# Altium footprint library TIMicrocontrollers.PcbLib: 3 footprints
Each footprint in its own frame and in the unit in brackets; x right, y up, seen from the top. Pads: shape width x height; smd on the part's side, far side on the other; paste and mask are expansions set on the pad; w line width, h text height; cw(c..) or ccw(c..) is an arc to the next point about the centre after c.
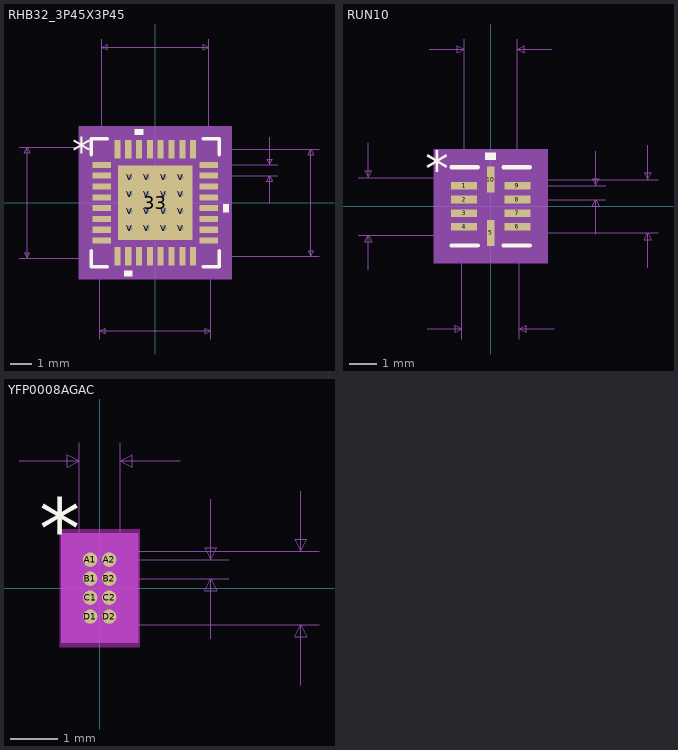
[diagram p0: the footprints below, top view; thin cyan lines are the x and y axes]

## RHB32_3P45X3P45 [mm]
pads (49):
  rect 0.85x0.28 smd paste-0.14 mask+0: 1(-2.475,1.75) 2(-2.475,1.25) 3(-2.475,0.75) 4(-2.475,0.25) 5(-2.475,-0.25) 6(-2.475,-0.75) 7(-2.475,-1.25) 8(-2.475,-1.75) 17(2.475,-1.75) 18(2.475,-1.25) 19(2.475,-0.75) 20(2.475,-0.25) 21(2.475,0.25) 22(2.475,0.75) 23(2.475,1.25) 24(2.475,1.75)
  rect 0.28x0.85 smd paste-0.14 mask+0: 9(-1.75,-2.475) 10(-1.25,-2.475) 11(-0.75,-2.475) 12(-0.25,-2.475) 13(0.25,-2.475) 14(0.75,-2.475) 15(1.25,-2.475) 16(1.75,-2.475) 25(1.75,2.475) 26(1.25,2.475) 27(0.75,2.475) 28(0.25,2.475) 29(-0.25,2.475) 30(-0.75,2.475) 31(-1.25,2.475) 32(-1.75,2.475)
  rect 3.45x3.45 smd paste-1.712 mask-1.714: 33(0,0)
  round 0.508 hole 0.254: V(-1.181,-1.181) V(-1.181,-0.394) V(-1.181,0.394) V(-1.181,1.181) V(-0.394,-1.181) V(-0.394,-0.394) V(-0.394,0.394) V(-0.394,1.181) V(0.394,-1.181) V(0.394,-0.394) V(0.394,0.394) V(0.394,1.181) V(1.181,-1.181) V(1.181,-0.394) V(1.181,0.394) V(1.181,1.181)
Top Overlay:
  region: -0.56,3.154 -0.941,3.154 -0.941,3.408 -0.56,3.408
  region: 3.154,-0.059 3.408,-0.059 3.408,-0.44 3.154,-0.44
  region: -1.06,-3.154 -1.441,-3.154 -1.441,-3.408 -1.06,-3.408
  lines w0.152: -2.956,-2.218 -2.956,-2.956 -2.218,-2.956 ; -2.956,2.218 -2.956,2.956 -2.218,2.956 ; 2.218,-2.956 2.956,-2.956 2.956,-2.218 ; 2.218,2.956 2.956,2.956 2.956,2.218
  text "*" at -3.852,1.746 h1.27
Top Paste:
  drawing of 57 lines, arcs and shapes, not listed
Top Solder:
  drawing of 42 lines, arcs and shapes, not listed
Mechanical 5:
  region: 3.535,-3.535 -3.535,-3.535 -3.535,3.535 3.535,3.535
Mechanical 7:
  lines w0.025: -6.306,-2.575 2.575,-2.575 ; -6.306,2.575 2.575,2.575 2.575,-6.306 ; -2.575,-6.306 -2.575,2.575 ; -2.475,1.75 -2.475,7.576 ; 1.75,-2.475 7.576,-2.475 ; 1.75,2.475 7.576,2.475 ; 2.475,1.25 5.671,1.25 ; 2.475,7.576 2.475,1.75 5.671,1.75 ; 5.29,-0.02 5.29,1.25 ; 5.29,3.02 5.29,1.75 ; -5.925,-2.575 -5.798,-2.321 -6.052,-2.321 -5.925,-2.575 ; -5.925,-2.575 -5.925,2.575 ; -5.925,2.575 -5.798,2.321 -6.052,2.321 -5.925,2.575 ; -2.575,-5.925 -2.321,-6.052 -2.321,-5.798 -2.575,-5.925 ; -2.575,-5.925 2.575,-5.925 ; -2.475,7.195 -2.221,7.068 -2.221,7.322 -2.475,7.195 ; -2.475,7.195 2.475,7.195 ; 2.475,7.195 2.221,7.068 2.221,7.322 2.475,7.195 ; 2.575,-5.925 2.321,-6.052 2.321,-5.798 2.575,-5.925 ; 5.29,1.25 5.417,0.996 5.163,0.996 5.29,1.25 ; 5.29,1.75 5.417,2.004 5.163,2.004 5.29,1.75 ; 7.195,-2.475 7.322,-2.221 7.068,-2.221 7.195,-2.475 ; 7.195,-2.475 7.195,2.475 ; 7.195,2.475 7.322,2.221 7.068,2.221 7.195,2.475
  text "0.203in/5.15mm" at -2.222,-7.068 h0.64
  text "0.203in/5.15mm" at -10.878,-0.318 h0.64
  text "0.195in/4.95mm" at 7.703,-0.318 h0.64
  text "0.195in/4.95mm" at -2.222,7.703 h0.64
  text "0.02in/0.5mm" at 5.798,1.182 h0.64
  text "Alt 2 Padstyle: OX90Y60D30P" at -8.572,-15.196 h1.27
  text "Alt 1 Padstyle: OX60Y90D30P" at -8.572,-13.672 h1.27
  text "Via Padstyle: EX20Y20D10P" at -7.938,-12.148 h1.27
  text "Heat Tab Padstyle: RX135p83Y135p83D0T" at -11.747,-10.624 h1.27
  text "Default Padstyle: RX11p02Y33p46D0T" at -10.795,-9.1 h1.27
Mechanical 13:
  lines w0.025: -2.575,1.305 -1.305,2.575 ; -2.575,-2.575 -2.575,2.575 2.575,2.575 2.575,-2.575 -2.575,-2.575
  text "*" at -2.114,1.365 h1.27
Mechanical 15:
  region: -2.144,-2.829 -2.829,-2.829 -2.829,-2.144 -3.154,-2.144 -3.154,2.144 -2.829,2.144 -2.829,2.829 -2.144,2.829 -2.144,3.154 2.144,3.154 2.144,2.829 2.829,2.829 2.829,2.144 3.154,2.144 3.154,-2.144 2.829,-2.144 2.829,-2.829 2.144,-2.829 2.144,-3.154 -2.144,-3.154
  lines w0.152: -3.154,-2.144 -3.154,2.144 -2.829,2.144 -2.829,2.829 -2.144,2.829 -2.144,3.154 2.144,3.154 2.144,2.829 2.829,2.829 2.829,2.144 3.154,2.144 3.154,-2.144 2.829,-2.144 2.829,-2.829 2.144,-2.829 2.144,-3.154 -2.144,-3.154 -2.144,-2.829 -2.829,-2.829 -2.829,-2.144 -3.154,-2.144
3D body "RHB32_3P45X3P45.step": height 1.4, standoff 0, extent -2.626,-2.626 2.626,2.626
3D body: height 0.25, standoff 0, extent 0,0 0.254,0.254

## RUN10 [mm]
pads (10):
  rect 0.95x0.28 smd paste-0.14: 1(-0.975,0.75) 2(-0.975,0.25) 3(-0.975,-0.25) 4(-0.975,-0.75) 6(0.975,-0.75) 7(0.975,-0.25) 8(0.975,0.25) 9(0.975,0.75)
  rect 0.28x0.95 smd paste-0.14: 5(0,-0.975) 10(0,0.975)
Top Overlay:
  region: 0.191,1.704 -0.191,1.704 -0.191,1.958 0.191,1.958
  lines w0.152: -1.431,-1.431 -0.473,-1.431 ; -1.431,1.431 -0.473,1.431 ; 0.473,-1.431 1.431,-1.431 ; 0.473,1.431 1.431,1.431
  text "*" at -2.402,0.746 h1.27
Top Paste:
  region: 0.115,1.425 -0.115,1.425 -0.115,0.525 0.115,0.525
  region: 1.425,0.865 0.525,0.865 0.525,0.635 1.425,0.635
  region: 1.425,0.365 0.525,0.365 0.525,0.135 1.425,0.135
  region: 1.425,-0.135 0.525,-0.135 0.525,-0.365 1.425,-0.365
  region: 1.425,-0.635 0.525,-0.635 0.525,-0.865 1.425,-0.865
  region: 0.115,-0.525 -0.115,-0.525 -0.115,-1.425 0.115,-1.425
  region: -0.525,-0.635 -1.425,-0.635 -1.425,-0.865 -0.525,-0.865
  region: -0.525,-0.135 -1.425,-0.135 -1.425,-0.365 -0.525,-0.365
  region: -0.525,0.365 -1.425,0.365 -1.425,0.135 -0.525,0.135
  region: -0.525,0.865 -1.425,0.865 -1.425,0.635 -0.525,0.635
Top Solder:
  region: 0.21,1.52 -0.21,1.52 -0.21,0.43 0.21,0.43
  region: 1.52,0.96 0.43,0.96 0.43,0.54 1.52,0.54
  region: 1.52,0.46 0.43,0.46 0.43,0.04 1.52,0.04
  region: 1.52,-0.04 0.43,-0.04 0.43,-0.46 1.52,-0.46
  region: 1.52,-0.54 0.43,-0.54 0.43,-0.96 1.52,-0.96
  region: 0.21,-0.43 -0.21,-0.43 -0.21,-1.52 0.21,-1.52
  region: -0.43,-0.54 -1.52,-0.54 -1.52,-0.96 -0.43,-0.96
  region: -0.43,-0.04 -1.52,-0.04 -1.52,-0.46 -0.43,-0.46
  region: -0.43,0.46 -1.52,0.46 -1.52,0.04 -0.43,0.04
  region: -0.43,0.96 -1.52,0.96 -1.52,0.54 -0.43,0.54
Mechanical 5:
  region: 2.085,-2.085 -2.085,-2.085 -2.085,2.085 2.085,2.085
Mechanical 7:
  lines w0.025: -4.856,-1.05 1.05,-1.05 ; -4.856,1.05 1.05,1.05 1.05,-4.856 ; -4.475,-2.32 -4.475,-1.05 ; -4.475,2.32 -4.475,1.05 ; -2.32,-4.475 -1.05,-4.475 ; -2.245,5.745 -0.975,5.745 ; -1.05,-4.856 -1.05,1.05 ; -0.975,0.75 -0.975,6.126 ; 0,-0.975 6.126,-0.975 ; 0,0.975 6.126,0.975 ; 0.975,0.25 4.221,0.25 ; 0.975,6.126 0.975,0.75 4.221,0.75 ; 2.245,5.745 0.975,5.745 ; 2.32,-4.475 1.05,-4.475 ; 3.84,-1.02 3.84,0.25 ; 3.84,2.02 3.84,0.75 ; 5.745,-2.245 5.745,-0.975 ; 5.745,2.245 5.745,0.975 ; -4.475,-1.05 -4.348,-1.304 -4.602,-1.304 -4.475,-1.05 ; -4.475,1.05 -4.348,1.304 -4.602,1.304 -4.475,1.05 ; -1.05,-4.475 -1.304,-4.602 -1.304,-4.348 -1.05,-4.475 ; -0.975,5.745 -1.229,5.618 -1.229,5.872 -0.975,5.745 ; 0.975,5.745 1.229,5.618 1.229,5.872 0.975,5.745 ; 1.05,-4.475 1.304,-4.602 1.304,-4.348 1.05,-4.475 ; 3.84,0.25 3.967,-0.004 3.713,-0.004 3.84,0.25 ; 3.84,0.75 3.967,1.004 3.713,1.004 3.84,0.75 ; 5.745,-0.975 5.872,-1.229 5.618,-1.229 5.745,-0.975 ; 5.745,0.975 5.872,1.229 5.618,1.229 5.745,0.975
  text "0.083in/2.1mm" at -2.064,-5.618 h0.64
  text "0.083in/2.1mm" at -9.11,-0.318 h0.64
  text "0.077in/1.95mm" at 6.253,-0.318 h0.64
  text "0.077in/1.95mm" at -2.222,6.253 h0.64
  text "0.02in/0.5mm" at 4.348,0.182 h0.64
  text "Alt 2 Padstyle: RX9p84Y22p83D10P" at -10.16,-13.746 h1.27
  text "Alt 1 Padstyle: RX13p78Y24p8D10P" at -10.16,-12.222 h1.27
  text "Default Padstyle: RX11p02Y37p4D0T" at -10.477,-7.65 h1.27
Mechanical 13:
  lines w0.025: -1.05,-0.22 0.22,1.05 ; -1.05,-1.05 -1.05,1.05 1.05,1.05 1.05,-1.05 -1.05,-1.05
  text "*" at -0.563,0.365 h1.27
Mechanical 15:
  region: -0.394,-1.304 -1.304,-1.304 -1.304,-1.144 -1.704,-1.144 -1.704,1.144 -1.304,1.144 -1.304,1.304 -0.394,1.304 -0.394,1.704 0.394,1.704 0.394,1.304 1.304,1.304 1.304,1.144 1.704,1.144 1.704,-1.144 1.304,-1.144 1.304,-1.304 0.394,-1.304 0.394,-1.704 -0.394,-1.704
  lines w0.152: -1.704,-1.144 -1.704,1.144 -1.304,1.144 -1.304,1.304 -0.394,1.304 -0.394,1.704 0.394,1.704 0.394,1.304 1.304,1.304 1.304,1.144 1.704,1.144 1.704,-1.144 1.304,-1.144 1.304,-1.304 0.394,-1.304 0.394,-1.704 -0.394,-1.704 -0.394,-1.304 -1.304,-1.304 -1.304,-1.144 -1.704,-1.144
3D body: height 0.25, standoff 0, extent 0,0 0.254,0.254
3D body "RUN10.step": height 0.6, standoff 0, extent -1.101,-1.101 1.101,1.101

## YFP0008AGAC [mm]
pads (8):
  round 0.305 smd paste+0 mask+0: A1(-0.2,0.6) A2(0.2,0.6) B1(-0.2,0.2) B2(0.2,0.2) C1(-0.2,-0.2) C2(0.2,-0.2) D1(-0.2,-0.6) D2(0.2,-0.6)
Top Overlay:
  text "*" at -1.27,0.635 h1.27
Keep-Out Layer:
  region: -0.844,-1.245 -0.844,1.245 0.844,1.245 0.844,-1.245
Mechanical 5:
  region: 0.813,-1.156 -0.813,-1.156 -0.813,1.156 0.813,1.156
Mechanical 7:
  lines w0.025: -1.702,2.68 -0.432,2.68 ; -0.432,0 -0.432,3.061 ; 0,-0.775 4.623,-0.775 ; 0,0.775 4.623,0.775 ; 0.2,0.2 2.718,0.2 ; 0.2,0.6 2.718,0.6 ; 0.432,0 0.432,3.061 ; 1.702,2.68 0.432,2.68 ; 2.337,-1.07 2.337,0.2 ; 2.337,1.87 2.337,0.6 ; 4.242,-2.045 4.242,-0.775 ; 4.242,2.045 4.242,0.775 ; -0.432,2.68 -0.686,2.807 -0.686,2.553 -0.432,2.68 ; 0.432,2.68 0.686,2.807 0.686,2.553 0.432,2.68 ; 2.337,0.2 2.21,-0.054 2.464,-0.054 2.337,0.2 ; 2.337,0.6 2.21,0.854 2.464,0.854 2.337,0.6 ; 4.242,-0.775 4.115,-1.029 4.369,-1.029 4.242,-0.775 ; 4.242,0.775 4.115,1.029 4.369,1.029 4.242,0.775
  text "Default Padstyle: EX12Y12D0T" at -8.89,-5.855 h1.27
  text "0.016in/0.4mm" at 2.845,0.082 h0.64
  text "0.034in/0.864mm" at -2.381,3.188 h0.64
  text "0.061in/1.549mm" at 4.75,-0.318 h0.64
Mechanical 13:
  lines w0.025: -0.432,0.575 -0.232,0.775 ; -0.432,-0.775 0.432,-0.775 0.432,0.775 -0.432,0.775 -0.432,-0.775
Mechanical 15:
  region: 0.686,-1.029 -0.686,-1.029 -0.686,1.029 0.686,1.029
  lines w0.152: -0.686,-1.029 -0.686,1.029 0.686,1.029 0.686,-1.029 -0.686,-1.029
3D body "YFP0008AGAC.step": height 0.51, standoff 0, extent -0.432,-0.775 0.432,0.775
3D body: height 0.25, standoff 0, extent 0,0 0.254,0.254